# Altium schematic symbol library Regulator_Switching.SchLib: 1279 symbols (part 9 of 14)
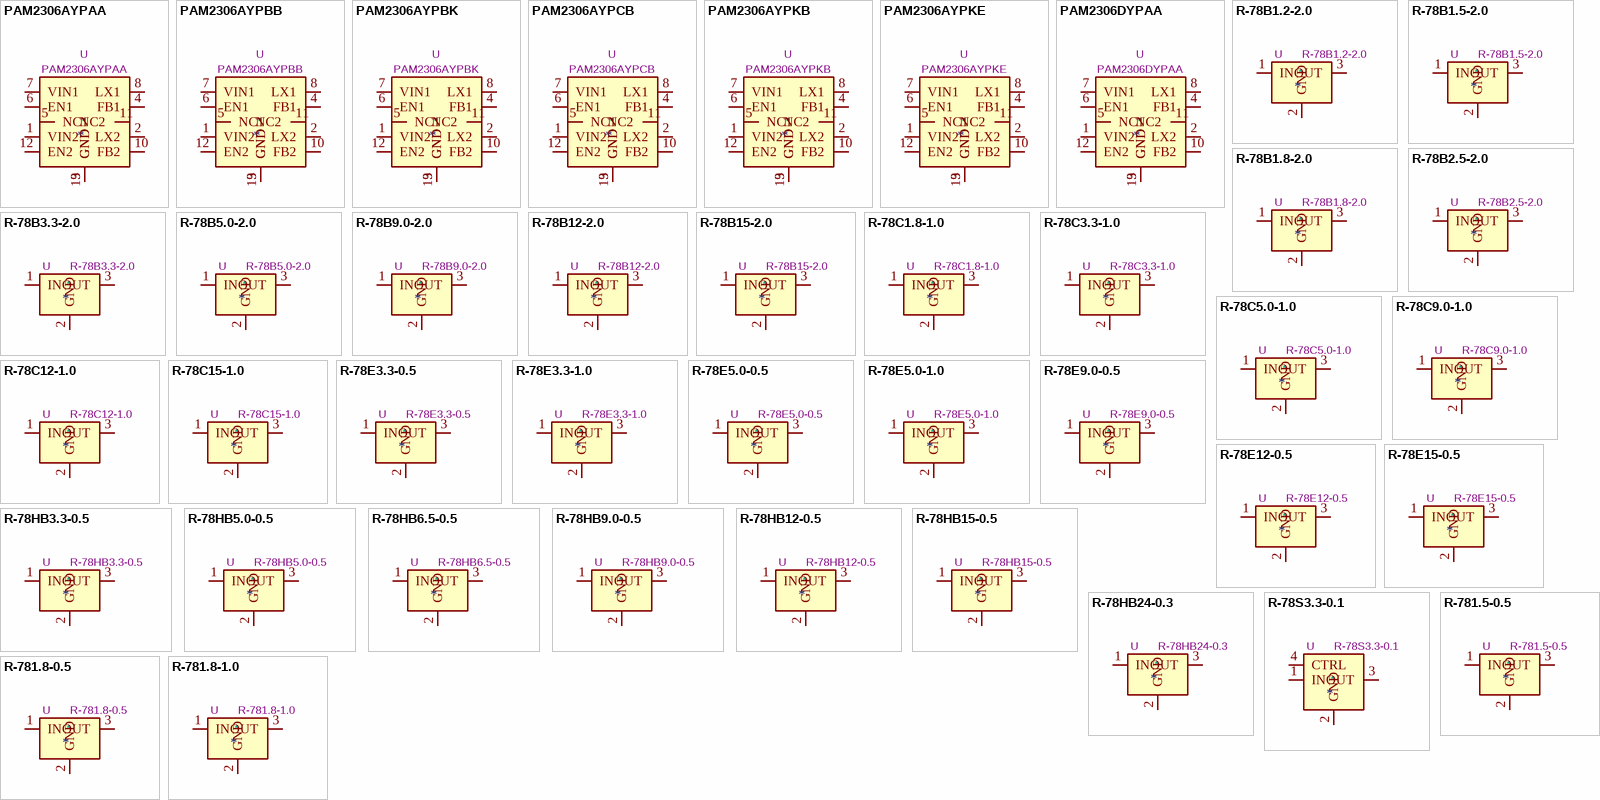
[diagram p40: symbols PAM2306AYPAA to R-781.8-1.0]

## R-78B1.5-2.0
designator *  value R-78B1.5-2.0  Reference: U
2A Step-Down DC/DC-Regulator, 4.75-32V input, 1.5V fixed Output Voltage, LM78xx replacement, -40°C to +85°C, SIP3; ki_keywords: dc-dc recom Step-Down DC/DC-Regulator; ki_fp_filters: Converter*DCDC*RECOM*R*78B*2.0*; Footprint: Converter_DCDC:Converter_DCDC_RECOM_R-78B-2.0_THT; Datasheet: https://www.recom-power.com/pdf/Innoline/R-78Bxx-2.0.pdf; Description_: 2A Step-Down DC/DC-Regulator, 4.75-32V input, 1.5V fixed Output Voltage, LM78xx replacement, -40°C to +85°C, SIP3
pins: 1 IN, 2 GND, 3 OUT

## R-78B1.8-2.0
designator *  value R-78B1.8-2.0  Reference: U
2A Step-Down DC/DC-Regulator, 4.75-32V input, 1.8V fixed Output Voltage, LM78xx replacement, -40°C to +85°C, SIP3; ki_keywords: dc-dc recom Step-Down DC/DC-Regulator; ki_fp_filters: Converter*DCDC*RECOM*R*78B*2.0*; Footprint: Converter_DCDC:Converter_DCDC_RECOM_R-78B-2.0_THT; Datasheet: https://www.recom-power.com/pdf/Innoline/R-78Bxx-2.0.pdf; Description_: 2A Step-Down DC/DC-Regulator, 4.75-32V input, 1.8V fixed Output Voltage, LM78xx replacement, -40°C to +85°C, SIP3
pins: 1 IN, 2 GND, 3 OUT

## R-78B2.5-2.0
designator *  value R-78B2.5-2.0  Reference: U
2A Step-Down DC/DC-Regulator, 4.75-32V input, 2.5V fixed Output Voltage, LM78xx replacement, -40°C to +85°C, SIP3; ki_keywords: dc-dc recom Step-Down DC/DC-Regulator; ki_fp_filters: Converter*DCDC*RECOM*R*78B*2.0*; Footprint: Converter_DCDC:Converter_DCDC_RECOM_R-78B-2.0_THT; Datasheet: https://www.recom-power.com/pdf/Innoline/R-78Bxx-2.0.pdf; Description_: 2A Step-Down DC/DC-Regulator, 4.75-32V input, 2.5V fixed Output Voltage, LM78xx replacement, -40°C to +85°C, SIP3
pins: 1 IN, 2 GND, 3 OUT

## R-78B3.3-2.0
designator *  value R-78B3.3-2.0  Reference: U
2A Step-Down DC/DC-Regulator, 4.75-32V input, 3.3V fixed Output Voltage, LM78xx replacement, -40°C to +85°C, SIP3; ki_keywords: dc-dc recom Step-Down DC/DC-Regulator; ki_fp_filters: Converter*DCDC*RECOM*R*78B*2.0*; Footprint: Converter_DCDC:Converter_DCDC_RECOM_R-78B-2.0_THT; Datasheet: https://www.recom-power.com/pdf/Innoline/R-78Bxx-2.0.pdf; Description_: 2A Step-Down DC/DC-Regulator, 4.75-32V input, 3.3V fixed Output Voltage, LM78xx replacement, -40°C to +85°C, SIP3
pins: 1 IN, 2 GND, 3 OUT

## R-78B5.0-2.0
designator *  value R-78B5.0-2.0  Reference: U
2A Step-Down DC/DC-Regulator, 6.5-32V input, 5.0V fixed Output Voltage, LM78xx replacement, -40°C to +85°C, SIP3; ki_keywords: dc-dc recom Step-Down DC/DC-Regulator; ki_fp_filters: Converter*DCDC*RECOM*R*78B*2.0*; Footprint: Converter_DCDC:Converter_DCDC_RECOM_R-78B-2.0_THT; Datasheet: https://www.recom-power.com/pdf/Innoline/R-78Bxx-2.0.pdf; Description_: 2A Step-Down DC/DC-Regulator, 6.5-32V input, 5.0V fixed Output Voltage, LM78xx replacement, -40°C to +85°C, SIP3
pins: 1 IN, 2 GND, 3 OUT

## R-78B9.0-2.0
designator *  value R-78B9.0-2.0  Reference: U
2A Step-Down DC/DC-Regulator, 11-32V input, 9.0V fixed Output Voltage, LM78xx replacement, -40°C to +85°C, SIP3; ki_keywords: dc-dc recom Step-Down DC/DC-Regulator; ki_fp_filters: Converter*DCDC*RECOM*R*78B*2.0*; Footprint: Converter_DCDC:Converter_DCDC_RECOM_R-78B-2.0_THT; Datasheet: https://www.recom-power.com/pdf/Innoline/R-78Bxx-2.0.pdf; Description_: 2A Step-Down DC/DC-Regulator, 11-32V input, 9.0V fixed Output Voltage, LM78xx replacement, -40°C to +85°C, SIP3
pins: 1 IN, 2 GND, 3 OUT

## R-78B12-2.0
designator *  value R-78B12-2.0  Reference: U
2A Step-Down DC/DC-Regulator, 15-32V input, 12V fixed Output Voltage, LM78xx replacement, -40°C to +85°C, SIP3; ki_keywords: dc-dc recom Step-Down DC/DC-Regulator; ki_fp_filters: Converter*DCDC*RECOM*R*78B*2.0*; Footprint: Converter_DCDC:Converter_DCDC_RECOM_R-78B-2.0_THT; Datasheet: https://www.recom-power.com/pdf/Innoline/R-78Bxx-2.0.pdf; Description_: 2A Step-Down DC/DC-Regulator, 15-32V input, 12V fixed Output Voltage, LM78xx replacement, -40°C to +85°C, SIP3
pins: 1 IN, 2 GND, 3 OUT

## R-78B15-2.0
designator *  value R-78B15-2.0  Reference: U
2A Step-Down DC/DC-Regulator, 18-32V input, 15V fixed Output Voltage, LM78xx replacement, -40°C to +85°C, SIP3; ki_keywords: dc-dc recom Step-Down DC/DC-Regulator; ki_fp_filters: Converter*DCDC*RECOM*R*78B*2.0*; Footprint: Converter_DCDC:Converter_DCDC_RECOM_R-78B-2.0_THT; Datasheet: https://www.recom-power.com/pdf/Innoline/R-78Bxx-2.0.pdf; Description_: 2A Step-Down DC/DC-Regulator, 18-32V input, 15V fixed Output Voltage, LM78xx replacement, -40°C to +85°C, SIP3
pins: 1 IN, 2 GND, 3 OUT

## R-78C1.8-1.0
designator *  value R-78C1.8-1.0  Reference: U
1A Step-Down DC/DC-Regulator, 5-42V input, 1.8V fixed Output Voltage, LM78xx replacement, -40°C to +85°C, SIP3; ki_keywords: dc-dc recom Step-Down DC/DC-Regulator; ki_fp_filters: Converter*DCDC*RECOM*R*78E*0.5*; Footprint: Converter_DCDC:Converter_DCDC_RECOM_R-78E-0.5_THT; Datasheet: https://www.recom-power.com/pdf/Innoline/R-78Cxx-1.0.pdf; Description_: 1A Step-Down DC/DC-Regulator, 5-42V input, 1.8V fixed Output Voltage, LM78xx replacement, -40°C to +85°C, SIP3
pins: 1 IN, 2 GND, 3 OUT

## R-78C3.3-1.0
designator *  value R-78C3.3-1.0  Reference: U
1A Step-Down DC/DC-Regulator, 6-42V input, 3.3V fixed Output Voltage, LM78xx replacement, -40°C to +85°C, SIP3; ki_keywords: dc-dc recom Step-Down DC/DC-Regulator; ki_fp_filters: Converter*DCDC*RECOM*R*78E*0.5*; Footprint: Converter_DCDC:Converter_DCDC_RECOM_R-78E-0.5_THT; Datasheet: https://www.recom-power.com/pdf/Innoline/R-78Cxx-1.0.pdf; Description_: 1A Step-Down DC/DC-Regulator, 6-42V input, 3.3V fixed Output Voltage, LM78xx replacement, -40°C to +85°C, SIP3
pins: 1 IN, 2 GND, 3 OUT

## R-78C5.0-1.0
designator *  value R-78C5.0-1.0  Reference: U
1A Step-Down DC/DC-Regulator, 7-42V input, 5V fixed Output Voltage, LM78xx replacement, -40°C to +85°C, SIP3; ki_keywords: dc-dc recom Step-Down DC/DC-Regulator; ki_fp_filters: Converter*DCDC*RECOM*R*78E*0.5*; Footprint: Converter_DCDC:Converter_DCDC_RECOM_R-78E-0.5_THT; Datasheet: https://www.recom-power.com/pdf/Innoline/R-78Cxx-1.0.pdf; Description_: 1A Step-Down DC/DC-Regulator, 7-42V input, 5V fixed Output Voltage, LM78xx replacement, -40°C to +85°C, SIP3
pins: 1 IN, 2 GND, 3 OUT

## R-78C9.0-1.0
designator *  value R-78C9.0-1.0  Reference: U
1A Step-Down DC/DC-Regulator, 12-42V input, 9V fixed Output Voltage, LM78xx replacement, -40°C to +85°C, SIP3; ki_keywords: dc-dc recom Step-Down DC/DC-Regulator; ki_fp_filters: Converter*DCDC*RECOM*R*78E*0.5*; Footprint: Converter_DCDC:Converter_DCDC_RECOM_R-78E-0.5_THT; Datasheet: https://www.recom-power.com/pdf/Innoline/R-78Cxx-1.0.pdf; Description_: 1A Step-Down DC/DC-Regulator, 12-42V input, 9V fixed Output Voltage, LM78xx replacement, -40°C to +85°C, SIP3
pins: 1 IN, 2 GND, 3 OUT

## R-78C12-1.0
designator *  value R-78C12-1.0  Reference: U
1A Step-Down DC/DC-Regulator, 15-42V input, 12V fixed Output Voltage, LM78xx replacement, -40°C to +85°C, SIP3; ki_keywords: dc-dc recom Step-Down DC/DC-Regulator; ki_fp_filters: Converter*DCDC*RECOM*R*78E*0.5*; Footprint: Converter_DCDC:Converter_DCDC_RECOM_R-78E-0.5_THT; Datasheet: https://www.recom-power.com/pdf/Innoline/R-78Cxx-1.0.pdf; Description_: 1A Step-Down DC/DC-Regulator, 15-42V input, 12V fixed Output Voltage, LM78xx replacement, -40°C to +85°C, SIP3
pins: 1 IN, 2 GND, 3 OUT

## R-78C15-1.0
designator *  value R-78C15-1.0  Reference: U
1A Step-Down DC/DC-Regulator, 18-42V input, 15V fixed Output Voltage, LM78xx replacement, -40°C to +85°C, SIP3; ki_keywords: dc-dc recom Step-Down DC/DC-Regulator; ki_fp_filters: Converter*DCDC*RECOM*R*78E*0.5*; Footprint: Converter_DCDC:Converter_DCDC_RECOM_R-78E-0.5_THT; Datasheet: https://www.recom-power.com/pdf/Innoline/R-78Cxx-1.0.pdf; Description_: 1A Step-Down DC/DC-Regulator, 18-42V input, 15V fixed Output Voltage, LM78xx replacement, -40°C to +85°C, SIP3
pins: 1 IN, 2 GND, 3 OUT

## R-78E3.3-0.5
designator *  value R-78E3.3-0.5  Reference: U
500mA Step-Down DC/DC-Regulator, 6-28V input, 3.3V fixed Output Voltage, LM78xx replacement, -40°C to +85°C, SIP3; ki_keywords: dc-dc recom Step-Down DC/DC-Regulator; ki_fp_filters: Converter*DCDC*RECOM*R*78E*0.5*; Footprint: Converter_DCDC:Converter_DCDC_RECOM_R-78E-0.5_THT; Datasheet: https://www.recom-power.com/pdf/Innoline/R-78Exx-0.5.pdf; Description_: 500mA Step-Down DC/DC-Regulator, 6-28V input, 3.3V fixed Output Voltage, LM78xx replacement, -40°C to +85°C, SIP3
pins: 1 IN, 2 GND, 3 OUT

## R-78E3.3-1.0
designator *  value R-78E3.3-1.0  Reference: U
1A Step-Down DC/DC-Regulator, 6-28V input, 3.3V fixed Output Voltage, LM78xx replacement, -40°C to +85°C, SIP3; ki_keywords: dc-dc recom Step-Down DC/DC-Regulator; ki_fp_filters: Converter*DCDC*RECOM*R*78E*0.5*; Footprint: Converter_DCDC:Converter_DCDC_RECOM_R-78E-0.5_THT; Datasheet: https://www.recom-power.com/pdf/Innoline/R-78Exx-1.0.pdf; Description_: 1A Step-Down DC/DC-Regulator, 6-28V input, 3.3V fixed Output Voltage, LM78xx replacement, -40°C to +85°C, SIP3
pins: 1 IN, 2 GND, 3 OUT

## R-78E5.0-0.5
designator *  value R-78E5.0-0.5  Reference: U
500mA Step-Down DC/DC-Regulator, 7-28V input, 5V fixed Output Voltage, LM78xx replacement, -40°C to +85°C, SIP3; ki_keywords: dc-dc recom Step-Down DC/DC-Regulator; ki_fp_filters: Converter*DCDC*RECOM*R*78E*0.5*; Footprint: Converter_DCDC:Converter_DCDC_RECOM_R-78E-0.5_THT; Datasheet: https://www.recom-power.com/pdf/Innoline/R-78Exx-0.5.pdf; Description_: 500mA Step-Down DC/DC-Regulator, 7-28V input, 5V fixed Output Voltage, LM78xx replacement, -40°C to +85°C, SIP3
pins: 1 IN, 2 GND, 3 OUT

## R-78E5.0-1.0
designator *  value R-78E5.0-1.0  Reference: U
1A Step-Down DC/DC-Regulator, 7-28V input, 5V fixed Output Voltage, LM78xx replacement, -40°C to +85°C, SIP3; ki_keywords: dc-dc recom Step-Down DC/DC-Regulator; ki_fp_filters: Converter*DCDC*RECOM*R*78E*0.5*; Footprint: Converter_DCDC:Converter_DCDC_RECOM_R-78E-0.5_THT; Datasheet: https://www.recom-power.com/pdf/Innoline/R-78Exx-1.0.pdf; Description_: 1A Step-Down DC/DC-Regulator, 7-28V input, 5V fixed Output Voltage, LM78xx replacement, -40°C to +85°C, SIP3
pins: 1 IN, 2 GND, 3 OUT

## R-78E9.0-0.5
designator *  value R-78E9.0-0.5  Reference: U
500mA Step-Down DC/DC-Regulator, 12-28V input, 9V fixed Output Voltage, LM78xx replacement, -40°C to +85°C, SIP3; ki_keywords: dc-dc recom Step-Down DC/DC-Regulator; ki_fp_filters: Converter*DCDC*RECOM*R*78E*0.5*; Footprint: Converter_DCDC:Converter_DCDC_RECOM_R-78E-0.5_THT; Datasheet: https://www.recom-power.com/pdf/Innoline/R-78Exx-0.5.pdf; Description_: 500mA Step-Down DC/DC-Regulator, 12-28V input, 9V fixed Output Voltage, LM78xx replacement, -40°C to +85°C, SIP3
pins: 1 IN, 2 GND, 3 OUT

## R-78E12-0.5
designator *  value R-78E12-0.5  Reference: U
500mA Step-Down DC/DC-Regulator, 15-28V input, 12V fixed Output Voltage, LM78xx replacement, -40°C to +85°C, SIP3; ki_keywords: dc-dc recom Step-Down DC/DC-Regulator; ki_fp_filters: Converter*DCDC*RECOM*R*78E*0.5*; Footprint: Converter_DCDC:Converter_DCDC_RECOM_R-78E-0.5_THT; Datasheet: https://www.recom-power.com/pdf/Innoline/R-78Exx-0.5.pdf; Description_: 500mA Step-Down DC/DC-Regulator, 15-28V input, 12V fixed Output Voltage, LM78xx replacement, -40°C to +85°C, SIP3
pins: 1 IN, 2 GND, 3 OUT

## R-78E15-0.5
designator *  value R-78E15-0.5  Reference: U
500mA Step-Down DC/DC-Regulator, 18-28V input, 15V fixed Output Voltage, LM78xx replacement, -40°C to +85°C, SIP3; ki_keywords: dc-dc recom Step-Down DC/DC-Regulator; ki_fp_filters: Converter*DCDC*RECOM*R*78E*0.5*; Footprint: Converter_DCDC:Converter_DCDC_RECOM_R-78E-0.5_THT; Datasheet: https://www.recom-power.com/pdf/Innoline/R-78Exx-0.5.pdf; Description_: 500mA Step-Down DC/DC-Regulator, 18-28V input, 15V fixed Output Voltage, LM78xx replacement, -40°C to +85°C, SIP3
pins: 1 IN, 2 GND, 3 OUT

## R-78HB3.3-0.5
designator *  value R-78HB3.3-0.5  Reference: U
500mA Step-Down DC/DC-Regulator, 9-72V input, 3.3V fixed Output Voltage, LM78xx replacement, -40°C to +85°C, SIP3; ki_keywords: dc-dc recom Step-Down DC/DC-Regulator; ki_fp_filters: Converter*DCDC*RECOM*R*78HB*0.5*; Footprint: Converter_DCDC:Converter_DCDC_RECOM_R-78HB-0.5_THT; Datasheet: https://www.recom-power.com/pdf/Innoline/R-78HBxx-0.5_L.pdf; Description_: 500mA Step-Down DC/DC-Regulator, 9-72V input, 3.3V fixed Output Voltage, LM78xx replacement, -40°C to +85°C, SIP3
pins: 1 IN, 2 GND, 3 OUT

## R-78HB5.0-0.5
designator *  value R-78HB5.0-0.5  Reference: U
500mA Step-Down DC/DC-Regulator, 9-72V input, 5.0V fixed Output Voltage, LM78xx replacement, -40°C to +85°C, SIP3; ki_keywords: dc-dc recom Step-Down DC/DC-Regulator; ki_fp_filters: Converter*DCDC*RECOM*R*78HB*0.5*; Footprint: Converter_DCDC:Converter_DCDC_RECOM_R-78HB-0.5_THT; Datasheet: https://www.recom-power.com/pdf/Innoline/R-78HBxx-0.5_L.pdf; Description_: 500mA Step-Down DC/DC-Regulator, 9-72V input, 5.0V fixed Output Voltage, LM78xx replacement, -40°C to +85°C, SIP3
pins: 1 IN, 2 GND, 3 OUT

## R-78HB6.5-0.5
designator *  value R-78HB6.5-0.5  Reference: U
500mA Step-Down DC/DC-Regulator, 9-72V input, 6.5V fixed Output Voltage, LM78xx replacement, -40°C to +85°C, SIP3; ki_keywords: dc-dc recom Step-Down DC/DC-Regulator; ki_fp_filters: Converter*DCDC*RECOM*R*78HB*0.5*; Footprint: Converter_DCDC:Converter_DCDC_RECOM_R-78HB-0.5_THT; Datasheet: https://www.recom-power.com/pdf/Innoline/R-78HBxx-0.5_L.pdf; Description_: 500mA Step-Down DC/DC-Regulator, 9-72V input, 6.5V fixed Output Voltage, LM78xx replacement, -40°C to +85°C, SIP3
pins: 1 IN, 2 GND, 3 OUT

## R-78HB9.0-0.5
designator *  value R-78HB9.0-0.5  Reference: U
500mA Step-Down DC/DC-Regulator, 14-72V input, 9.0V fixed Output Voltage, LM78xx replacement, -40°C to +85°C, SIP3; ki_keywords: dc-dc recom Step-Down DC/DC-Regulator; ki_fp_filters: Converter*DCDC*RECOM*R*78HB*0.5*; Footprint: Converter_DCDC:Converter_DCDC_RECOM_R-78HB-0.5_THT; Datasheet: https://www.recom-power.com/pdf/Innoline/R-78HBxx-0.5_L.pdf; Description_: 500mA Step-Down DC/DC-Regulator, 14-72V input, 9.0V fixed Output Voltage, LM78xx replacement, -40°C to +85°C, SIP3
pins: 1 IN, 2 GND, 3 OUT

## R-78HB12-0.5
designator *  value R-78HB12-0.5  Reference: U
500mA Step-Down DC/DC-Regulator, 17-72V input, 12V fixed Output Voltage, LM78xx replacement, -40°C to +85°C, SIP3; ki_keywords: dc-dc recom Step-Down DC/DC-Regulator; ki_fp_filters: Converter*DCDC*RECOM*R*78HB*0.5*; Footprint: Converter_DCDC:Converter_DCDC_RECOM_R-78HB-0.5_THT; Datasheet: https://www.recom-power.com/pdf/Innoline/R-78HBxx-0.5_L.pdf; Description_: 500mA Step-Down DC/DC-Regulator, 17-72V input, 12V fixed Output Voltage, LM78xx replacement, -40°C to +85°C, SIP3
pins: 1 IN, 2 GND, 3 OUT

## R-78HB15-0.5
designator *  value R-78HB15-0.5  Reference: U
500mA Step-Down DC/DC-Regulator, 20-72V input, 15V fixed Output Voltage, LM78xx replacement, -40°C to +85°C, SIP3; ki_keywords: dc-dc recom Step-Down DC/DC-Regulator; ki_fp_filters: Converter*DCDC*RECOM*R*78HB*0.5*; Footprint: Converter_DCDC:Converter_DCDC_RECOM_R-78HB-0.5_THT; Datasheet: https://www.recom-power.com/pdf/Innoline/R-78HBxx-0.5_L.pdf; Description_: 500mA Step-Down DC/DC-Regulator, 20-72V input, 15V fixed Output Voltage, LM78xx replacement, -40°C to +85°C, SIP3
pins: 1 IN, 2 GND, 3 OUT

## R-78HB24-0.3
designator *  value R-78HB24-0.3  Reference: U
300mA Step-Down DC/DC-Regulator, 36-72V input, 24V fixed Output Voltage, LM78xx replacement, -40°C to +85°C, SIP3; ki_keywords: dc-dc recom Step-Down DC/DC-Regulator; ki_fp_filters: Converter*DCDC*RECOM*R*78HB*0.5*; Footprint: Converter_DCDC:Converter_DCDC_RECOM_R-78HB-0.5_THT; Datasheet: https://www.recom-power.com/pdf/Innoline/R-78HBxx-0.5_L.pdf; Description_: 300mA Step-Down DC/DC-Regulator, 36-72V input, 24V fixed Output Voltage, LM78xx replacement, -40°C to +85°C, SIP3
pins: 1 IN, 2 GND, 3 OUT

## R-78S3.3-0.1
designator *  value R-78S3.3-0.1  Reference: U
100mA Step-Up DC/DC-Regulator, 0.65-3.15V input, 3.3V fixed Output Voltage, LM78xx replacement, -40°C to +85°C, SIP4; ki_keywords: dc-dc recom Step-Down DC/DC-Regulator; ki_fp_filters: Converter*DCDC*RECOM*R*78S*0.1*; Footprint: Converter_DCDC:Converter_DCDC_RECOM_R-78S-0.1_THT; Datasheet: https://www.recom-power.com/pdf/Innoline/R-78Sxx-0.1.pdf; Description_: 100mA Step-Up DC/DC-Regulator, 0.65-3.15V input, 3.3V fixed Output Voltage, LM78xx replacement, -40°C to +85°C, SIP4
pins: 1 IN, 2 GND, 3 OUT, 4 CTRL

## R-781.5-0.5
designator *  value R-781.5-0.5  Reference: U
500mA Step-Down DC/DC-Regulator, 4.75-30V input, 1.5V fixed Output Voltage, LM78xx replacement, -40°C to +85°C, SIP3; ki_keywords: dc-dc recom Step-Down DC/DC-Regulator; ki_fp_filters: Converter*DCDC*RECOM*R*78E*0.5*; Footprint: Converter_DCDC:Converter_DCDC_RECOM_R-78E-0.5_THT; Datasheet: https://www.recom-power.com/pdf/Innoline/R-78xx-0.5.pdf; Description_: 500mA Step-Down DC/DC-Regulator, 4.75-30V input, 1.5V fixed Output Voltage, LM78xx replacement, -40°C to +85°C, SIP3
pins: 1 IN, 2 GND, 3 OUT

## R-781.8-0.5
designator *  value R-781.8-0.5  Reference: U
500mA Step-Down DC/DC-Regulator, 4.75-32V input, 1.8V fixed Output Voltage, LM78xx replacement, -40°C to +85°C, SIP3; ki_keywords: dc-dc recom Step-Down DC/DC-Regulator; ki_fp_filters: Converter*DCDC*RECOM*R*78E*0.5*; Footprint: Converter_DCDC:Converter_DCDC_RECOM_R-78E-0.5_THT; Datasheet: https://www.recom-power.com/pdf/Innoline/R-78xx-0.5.pdf; Description_: 500mA Step-Down DC/DC-Regulator, 4.75-32V input, 1.8V fixed Output Voltage, LM78xx replacement, -40°C to +85°C, SIP3
pins: 1 IN, 2 GND, 3 OUT

## R-781.8-1.0
designator *  value R-781.8-1.0  Reference: U
1A Step-Down DC/DC-Regulator, 4.75-18V input, 1.8V fixed Output Voltage, LM78xx replacement, -40°C to +85°C, SIP3; ki_keywords: dc-dc recom Step-Down DC/DC-Regulator; ki_fp_filters: Converter*DCDC*RECOM*R*78E*0.5*; Footprint: Converter_DCDC:Converter_DCDC_RECOM_R-78E-0.5_THT; Datasheet: https://www.recom-power.com/pdf/Innoline/R-78xx-1.0.pdf; Description_: 1A Step-Down DC/DC-Regulator, 4.75-18V input, 1.8V fixed Output Voltage, LM78xx replacement, -40°C to +85°C, SIP3
pins: 1 IN, 2 GND, 3 OUT

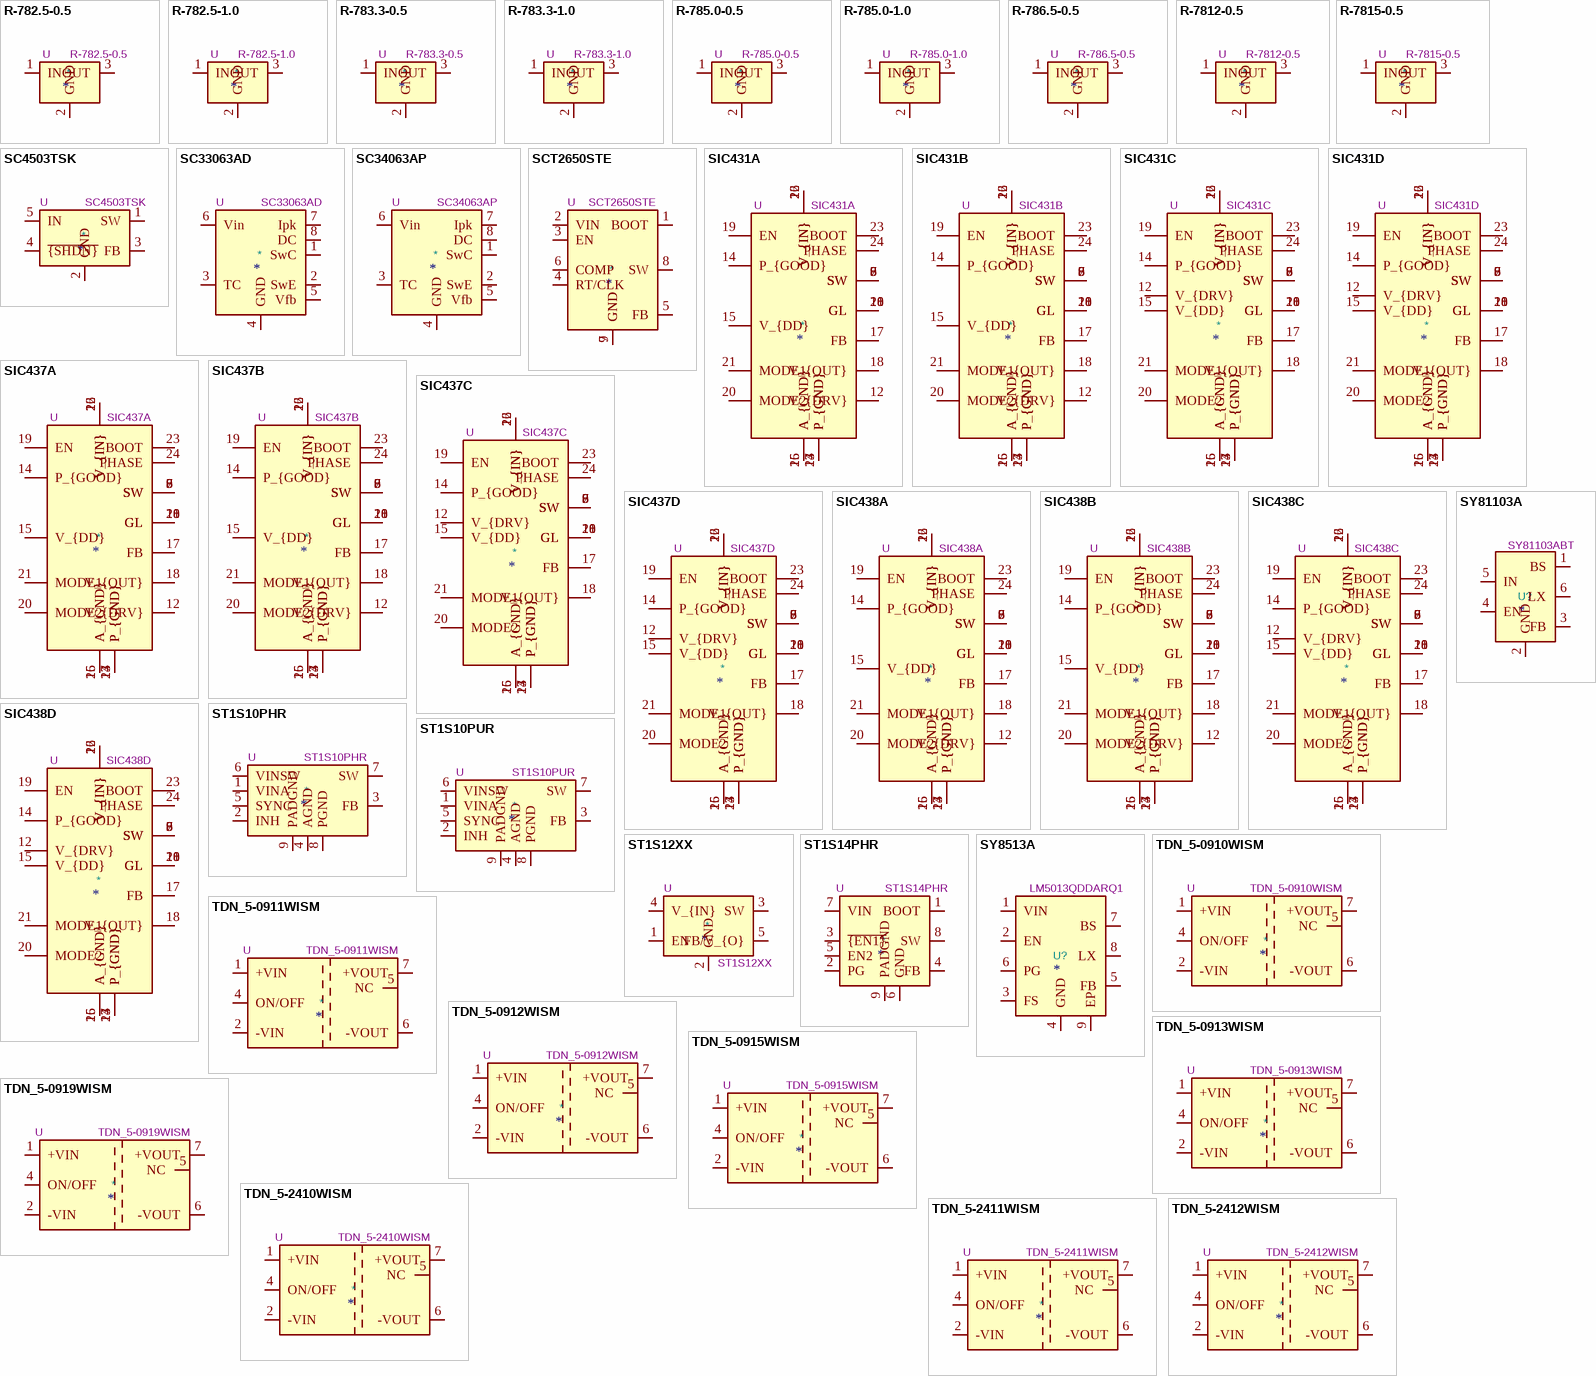
[diagram p20: symbols R-782.5-0.5 to TDN_5-2412WISM]

## R-782.5-0.5
designator *  value R-782.5-0.5  Reference: U
500mA Step-Down DC/DC-Regulator, 4.75-18V input, 2.5V fixed Output Voltage, LM78xx replacement, -40°C to +85°C, SIP3; ki_keywords: dc-dc recom Step-Down DC/DC-Regulator; ki_fp_filters: Converter*DCDC*RECOM*R*78E*0.5*; Footprint: Converter_DCDC:Converter_DCDC_RECOM_R-78E-0.5_THT; Datasheet: https://www.recom-power.com/pdf/Innoline/R-78xx-0.5.pdf; Description_: 500mA Step-Down DC/DC-Regulator, 4.75-18V input, 2.5V fixed Output Voltage, LM78xx replacement, -40°C to +85°C, SIP3
pins: 1 IN, 2 GND, 3 OUT

## R-782.5-1.0
designator *  value R-782.5-1.0  Reference: U
1A Step-Down DC/DC-Regulator, 4.75-18V input, 2.5V fixed Output Voltage, LM78xx replacement, -40°C to +85°C, SIP3; ki_keywords: dc-dc recom Step-Down DC/DC-Regulator; ki_fp_filters: Converter*DCDC*RECOM*R*78E*0.5*; Footprint: Converter_DCDC:Converter_DCDC_RECOM_R-78E-0.5_THT; Datasheet: https://www.recom-power.com/pdf/Innoline/R-78xx-1.0.pdf; Description_: 1A Step-Down DC/DC-Regulator, 4.75-18V input, 2.5V fixed Output Voltage, LM78xx replacement, -40°C to +85°C, SIP3
pins: 1 IN, 2 GND, 3 OUT

## R-783.3-0.5
designator *  value R-783.3-0.5  Reference: U
500mA Step-Down DC/DC-Regulator, 4.75-18V input, 3.3V fixed Output Voltage, LM78xx replacement, -40°C to +85°C, SIP3; ki_keywords: dc-dc recom Step-Down DC/DC-Regulator; ki_fp_filters: Converter*DCDC*RECOM*R*78E*0.5*; Footprint: Converter_DCDC:Converter_DCDC_RECOM_R-78E-0.5_THT; Datasheet: https://www.recom-power.com/pdf/Innoline/R-78xx-0.5.pdf; Description_: 500mA Step-Down DC/DC-Regulator, 4.75-18V input, 3.3V fixed Output Voltage, LM78xx replacement, -40°C to +85°C, SIP3
pins: 1 IN, 2 GND, 3 OUT

## R-783.3-1.0
designator *  value R-783.3-1.0  Reference: U
1A Step-Down DC/DC-Regulator, 4.75-18V input, 3.3V fixed Output Voltage, LM78xx replacement, -40°C to +85°C, SIP3; ki_keywords: dc-dc recom Step-Down DC/DC-Regulator; ki_fp_filters: Converter*DCDC*RECOM*R*78E*0.5*; Footprint: Converter_DCDC:Converter_DCDC_RECOM_R-78E-0.5_THT; Datasheet: https://www.recom-power.com/pdf/Innoline/R-78xx-1.0.pdf; Description_: 1A Step-Down DC/DC-Regulator, 4.75-18V input, 3.3V fixed Output Voltage, LM78xx replacement, -40°C to +85°C, SIP3
pins: 1 IN, 2 GND, 3 OUT

## R-785.0-0.5
designator *  value R-785.0-0.5  Reference: U
500mA Step-Down DC/DC-Regulator, 6.5-18V input, 5V fixed Output Voltage, LM78xx replacement, -40°C to +85°C, SIP3; ki_keywords: dc-dc recom Step-Down DC/DC-Regulator; ki_fp_filters: Converter*DCDC*RECOM*R*78E*0.5*; Footprint: Converter_DCDC:Converter_DCDC_RECOM_R-78E-0.5_THT; Datasheet: https://www.recom-power.com/pdf/Innoline/R-78xx-0.5.pdf; Description_: 500mA Step-Down DC/DC-Regulator, 6.5-18V input, 5V fixed Output Voltage, LM78xx replacement, -40°C to +85°C, SIP3
pins: 1 IN, 2 GND, 3 OUT

## R-785.0-1.0
designator *  value R-785.0-1.0  Reference: U
1A Step-Down DC/DC-Regulator, 6.5-18V input, 5V fixed Output Voltage, LM78xx replacement, -40°C to +85°C, SIP3; ki_keywords: dc-dc recom Step-Down DC/DC-Regulator; ki_fp_filters: Converter*DCDC*RECOM*R*78E*0.5*; Footprint: Converter_DCDC:Converter_DCDC_RECOM_R-78E-0.5_THT; Datasheet: https://www.recom-power.com/pdf/Innoline/R-78xx-1.0.pdf; Description_: 1A Step-Down DC/DC-Regulator, 6.5-18V input, 5V fixed Output Voltage, LM78xx replacement, -40°C to +85°C, SIP3
pins: 1 IN, 2 GND, 3 OUT

## R-786.5-0.5
designator *  value R-786.5-0.5  Reference: U
500mA Step-Down DC/DC-Regulator, 8-32V input, 6.5V fixed Output Voltage, LM78xx replacement, -40°C to +85°C, SIP3; ki_keywords: dc-dc recom Step-Down DC/DC-Regulator; ki_fp_filters: Converter*DCDC*RECOM*R*78E*0.5*; Footprint: Converter_DCDC:Converter_DCDC_RECOM_R-78E-0.5_THT; Datasheet: https://www.recom-power.com/pdf/Innoline/R-78xx-0.5.pdf; Description_: 500mA Step-Down DC/DC-Regulator, 8-32V input, 6.5V fixed Output Voltage, LM78xx replacement, -40°C to +85°C, SIP3
pins: 1 IN, 2 GND, 3 OUT

## R-7812-0.5
designator *  value R-7812-0.5  Reference: U
500mA Step-Down DC/DC-Regulator, 15-32V input, 12V fixed Output Voltage, LM78xx replacement, -40°C to +85°C, SIP3; ki_keywords: dc-dc recom Step-Down DC/DC-Regulator; ki_fp_filters: Converter*DCDC*RECOM*R*78E*0.5*; Footprint: Converter_DCDC:Converter_DCDC_RECOM_R-78E-0.5_THT; Datasheet: https://www.recom-power.com/pdf/Innoline/R-78xx-0.5.pdf; Description_: 500mA Step-Down DC/DC-Regulator, 15-32V input, 12V fixed Output Voltage, LM78xx replacement, -40°C to +85°C, SIP3
pins: 1 IN, 2 GND, 3 OUT

## R-7815-0.5
designator *  value R-7815-0.5  Reference: U
500mA Step-Down DC/DC-Regulator, 18-32V input, 15V fixed Output Voltage, LM78xx replacement, -40°C to +85°C, SIP3; ki_keywords: dc-dc recom Step-Down DC/DC-Regulator; ki_fp_filters: Converter*DCDC*RECOM*R*78E*0.5*; Footprint: Converter_DCDC:Converter_DCDC_RECOM_R-78E-0.5_THT; Datasheet: https://www.recom-power.com/pdf/Innoline/R-78xx-0.5.pdf; Description_: 500mA Step-Down DC/DC-Regulator, 18-32V input, 15V fixed Output Voltage, LM78xx replacement, -40°C to +85°C, SIP3
pins: 1 IN, 2 GND, 3 OUT

## SC4503TSK
designator *  value SC4503TSK  Reference: U
1.9A, 1.3MHz Step-Up DC/DC Converter, 2.5V-20V output voltage, TSOT23; ki_keywords: 1.9A 1.3MHz Step-Up DC/DC; ki_fp_filters: TSOT*23*; Footprint: Package_TO_SOT_SMD:TSOT-23-5; Datasheet: https://www.semtech.com/uploads/documents/sc4503.pdf; Description_: 1.9A, 1.3MHz Step-Up DC/DC Converter, 2.5V-20V output voltage, TSOT23
pins: 1 SW, 2 GND, 3 FB, 4 ~{{SHDN}}, 5 IN

## SC33063AD
designator *  value SC33063AD  Reference: U
1.5A, step-up/down/inverting switching regulator, 3-40V Vin, 100kHz, SO-8; ki_keywords: smps buck boost inverting; ki_fp_filters: SOIC*3.9x4.9mm*P1.27mm*; Footprint: Package_SO:SOIC-8_3.9x4.9mm_P1.27mm; Datasheet: http://www.onsemi.com/pub_link/Collateral/MC34063A-D.PDF; Description_: 1.5A, step-up/down/inverting switching regulator, 3-40V Vin, 100kHz, SO-8
pins: 1 SwC, 2 SwE, 3 TC, 4 GND, 5 Vfb, 6 Vin, 7 Ipk, 8 DC

## SC34063AP
designator *  value SC34063AP  Reference: U
1.5A, step-up/down/inverting switching regulator, 3-40V Vin, 100kHz, DIP-8; ki_keywords: smps buck boost inverting; ki_fp_filters: DIP*W7.62mm*; Footprint: Package_DIP:DIP-8_W7.62mm; Datasheet: http://www.onsemi.com/pub_link/Collateral/MC34063A-D.PDF; Description_: 1.5A, step-up/down/inverting switching regulator, 3-40V Vin, 100kHz, DIP-8
pins: 1 SwC, 2 SwE, 3 TC, 4 GND, 5 Vfb, 6 Vin, 7 Ipk, 8 DC

## SCT2650STE
designator *  value SCT2650STE  Reference: U
5A Buck Regulator, 4.5-60V input, 100kHz..1.2MHz adjustable frequency, pulse skipping mode (PSM) at light load, SOIC-8 (SOP-8); ki_keywords: silicontent silicon-content switching step-down; ki_fp_filters: *SOIC*3.9x4.9mm*P1.27mm*EP2.*3.*; Footprint: Package_SO:SOIC-8-1EP_3.9x4.9mm_P1.27mm_EP2.41x3.3mm; Datasheet: https://www.silicontent.com//uploads/20241024/862bd33cde0b5cf82cc861cd1faade3b.pdf; Description_: 5A Buck Regulator, 4.5-60V input, 100kHz..1.2MHz adjustable frequency, pulse skipping mode (PSM) at light load, SOIC-8 (SOP-8)
pins: 1 BOOT, 2 VIN, 3 EN, 4 RT/CLK, 5 FB, 6 COMP, 7 GND, 8 SW, 9 GND

## SIC431A
designator *  value SIC431A  Reference: U
24A Step-Down DC/DC-Regulator, 300kHz-1MHz, 3..24Vin, 0.6..21.6Vout; ki_keywords: Buck Vishay Siliconix voltage-regulator; ki_fp_filters: Vishay?PowerPAK?MLP44?24L*; Footprint: Package_DFN_QFN:Vishay_PowerPAK_MLP44-24L_ThermalVias; Datasheet: https://www.vishay.com/docs/74589/sic431.pdf; Description_: 24A Step-Down DC/DC-Regulator, 300kHz-1MHz, 3..24Vin, 0.6..21.6Vout
pins: 1 V_{IN}, 2 V_{IN}, 3 P_{GND}, 4 P_{GND}, 5 SW, 6 SW, 7 SW, 8 SW, 9 SW, 10 GL, 11 GL, 12 V_{DRV}, 13 P_{GND}, 14 P_{GOOD}, 15 V_{DD}, 16 A_{GND}, 17 FB, 18 V_{OUT}, 19 EN, 20 MODE2, 21 MODE1, 22 V_{IN}, 23 BOOT, 24 PHASE, 25 A_{GND}, 26 V_{IN}, 27 P_{GND}, 28 GL

## SIC431B
designator *  value SIC431B  Reference: U
24A Step-Down DC/DC-Regulator, 300kHz-1MHz, 3..24Vin, 0.6..21.6Vout; ki_keywords: Buck Vishay Siliconix voltage-regulator; ki_fp_filters: Vishay?PowerPAK?MLP44?24L*; Footprint: Package_DFN_QFN:Vishay_PowerPAK_MLP44-24L_ThermalVias; Datasheet: https://www.vishay.com/docs/74589/sic431.pdf; Description_: 24A Step-Down DC/DC-Regulator, 300kHz-1MHz, 3..24Vin, 0.6..21.6Vout
pins: 1 V_{IN}, 2 V_{IN}, 3 P_{GND}, 4 P_{GND}, 5 SW, 6 SW, 7 SW, 8 SW, 9 SW, 10 GL, 11 GL, 12 V_{DRV}, 13 P_{GND}, 14 P_{GOOD}, 15 V_{DD}, 16 A_{GND}, 17 FB, 18 V_{OUT}, 19 EN, 20 MODE2, 21 MODE1, 22 V_{IN}, 23 BOOT, 24 PHASE, 25 A_{GND}, 26 V_{IN}, 27 P_{GND}, 28 GL

## SIC431C
designator *  value SIC431C  Reference: U
24A Step-Down DC/DC-Regulator, 300kHz-1MHz, 3..24Vin, 0.6..21.6Vout; ki_keywords: Buck Vishay Siliconix voltage-regulator; ki_fp_filters: Vishay?PowerPAK?MLP44?24L*; Footprint: Package_DFN_QFN:Vishay_PowerPAK_MLP44-24L_ThermalVias; Datasheet: https://www.vishay.com/docs/74589/sic431.pdf; Description_: 24A Step-Down DC/DC-Regulator, 300kHz-1MHz, 3..24Vin, 0.6..21.6Vout
pins: 1 V_{IN}, 2 V_{IN}, 3 P_{GND}, 4 P_{GND}, 5 SW, 6 SW, 7 SW, 8 SW, 9 SW, 10 GL, 11 GL, 12 V_{DRV}, 13 P_{GND}, 14 P_{GOOD}, 15 V_{DD}, 16 A_{GND}, 17 FB, 18 V_{OUT}, 19 EN, 20 MODE2, 21 MODE1, 22 V_{IN}, 23 BOOT, 24 PHASE, 25 A_{GND}, 26 V_{IN}, 27 P_{GND}, 28 GL

## SIC431D
designator *  value SIC431D  Reference: U
24A Step-Down DC/DC-Regulator, 300kHz-1MHz, 3..24Vin, 0.6..21.6Vout; ki_keywords: Buck Vishay Siliconix voltage-regulator; ki_fp_filters: Vishay?PowerPAK?MLP44?24L*; Footprint: Package_DFN_QFN:Vishay_PowerPAK_MLP44-24L_ThermalVias; Datasheet: https://www.vishay.com/docs/74589/sic431.pdf; Description_: 24A Step-Down DC/DC-Regulator, 300kHz-1MHz, 3..24Vin, 0.6..21.6Vout
pins: 1 V_{IN}, 2 V_{IN}, 3 P_{GND}, 4 P_{GND}, 5 SW, 6 SW, 7 SW, 8 SW, 9 SW, 10 GL, 11 GL, 12 V_{DRV}, 13 P_{GND}, 14 P_{GOOD}, 15 V_{DD}, 16 A_{GND}, 17 FB, 18 V_{OUT}, 19 EN, 20 MODE2, 21 MODE1, 22 V_{IN}, 23 BOOT, 24 PHASE, 25 A_{GND}, 26 V_{IN}, 27 P_{GND}, 28 GL

## SIC437A
designator *  value SIC437A  Reference: U
12A Step-Down DC/DC-Regulator, 300kHz-1MHz, 3..24Vin, 0.6..21.6Vout; ki_keywords: Buck Vishay Siliconix voltage-regulator; ki_fp_filters: Vishay?PowerPAK?MLP44?24L*; Footprint: Package_DFN_QFN:Vishay_PowerPAK_MLP44-24L_ThermalVias; Datasheet: https://www.vishay.com/docs/75921/sic437.pdf; Description_: 12A Step-Down DC/DC-Regulator, 300kHz-1MHz, 3..24Vin, 0.6..21.6Vout
pins: 1 V_{IN}, 2 V_{IN}, 3 P_{GND}, 4 P_{GND}, 5 SW, 6 SW, 7 SW, 8 SW, 9 SW, 10 GL, 11 GL, 12 V_{DRV}, 13 P_{GND}, 14 P_{GOOD}, 15 V_{DD}, 16 A_{GND}, 17 FB, 18 V_{OUT}, 19 EN, 20 MODE2, 21 MODE1, 22 V_{IN}, 23 BOOT, 24 PHASE, 25 A_{GND}, 26 V_{IN}, 27 P_{GND}, 28 GL

## SIC437B
designator *  value SIC437B  Reference: U
12A Step-Down DC/DC-Regulator, 300kHz-1MHz, 3..24Vin, 0.6..21.6Vout; ki_keywords: Buck Vishay Siliconix voltage-regulator; ki_fp_filters: Vishay?PowerPAK?MLP44?24L*; Footprint: Package_DFN_QFN:Vishay_PowerPAK_MLP44-24L_ThermalVias; Datasheet: https://www.vishay.com/docs/75921/sic437.pdf; Description_: 12A Step-Down DC/DC-Regulator, 300kHz-1MHz, 3..24Vin, 0.6..21.6Vout
pins: 1 V_{IN}, 2 V_{IN}, 3 P_{GND}, 4 P_{GND}, 5 SW, 6 SW, 7 SW, 8 SW, 9 SW, 10 GL, 11 GL, 12 V_{DRV}, 13 P_{GND}, 14 P_{GOOD}, 15 V_{DD}, 16 A_{GND}, 17 FB, 18 V_{OUT}, 19 EN, 20 MODE2, 21 MODE1, 22 V_{IN}, 23 BOOT, 24 PHASE, 25 A_{GND}, 26 V_{IN}, 27 P_{GND}, 28 GL

## SIC437C
designator *  value SIC437C  Reference: U
12A Step-Down DC/DC-Regulator, 300kHz-1MHz, 3..24Vin, 0.6..21.6Vout; ki_keywords: Buck Vishay Siliconix voltage-regulator; ki_fp_filters: Vishay?PowerPAK?MLP44?24L*; Footprint: Package_DFN_QFN:Vishay_PowerPAK_MLP44-24L_ThermalVias; Datasheet: https://www.vishay.com/docs/75921/sic437.pdf; Description_: 12A Step-Down DC/DC-Regulator, 300kHz-1MHz, 3..24Vin, 0.6..21.6Vout
pins: 1 V_{IN}, 2 V_{IN}, 3 P_{GND}, 4 P_{GND}, 5 SW, 6 SW, 7 SW, 8 SW, 9 SW, 10 GL, 11 GL, 12 V_{DRV}, 13 P_{GND}, 14 P_{GOOD}, 15 V_{DD}, 16 A_{GND}, 17 FB, 18 V_{OUT}, 19 EN, 20 MODE2, 21 MODE1, 22 V_{IN}, 23 BOOT, 24 PHASE, 25 A_{GND}, 26 V_{IN}, 27 P_{GND}, 28 GL

## SIC437D
designator *  value SIC437D  Reference: U
12A Step-Down DC/DC-Regulator, 300kHz-1MHz, 3..24Vin, 0.6..21.6Vout; ki_keywords: Buck Vishay Siliconix voltage-regulator; ki_fp_filters: Vishay?PowerPAK?MLP44?24L*; Footprint: Package_DFN_QFN:Vishay_PowerPAK_MLP44-24L_ThermalVias; Datasheet: https://www.vishay.com/docs/75921/sic437.pdf; Description_: 12A Step-Down DC/DC-Regulator, 300kHz-1MHz, 3..24Vin, 0.6..21.6Vout
pins: 1 V_{IN}, 2 V_{IN}, 3 P_{GND}, 4 P_{GND}, 5 SW, 6 SW, 7 SW, 8 SW, 9 SW, 10 GL, 11 GL, 12 V_{DRV}, 13 P_{GND}, 14 P_{GOOD}, 15 V_{DD}, 16 A_{GND}, 17 FB, 18 V_{OUT}, 19 EN, 20 MODE2, 21 MODE1, 22 V_{IN}, 23 BOOT, 24 PHASE, 25 A_{GND}, 26 V_{IN}, 27 P_{GND}, 28 GL

## SIC438A
designator *  value SIC438A  Reference: U
8A Step-Down DC/DC-Regulator, 300kHz-1MHz, 3..24Vin, 0.6..21.6Vout; ki_keywords: Buck Vishay Siliconix voltage-regulator; ki_fp_filters: Vishay?PowerPAK?MLP44?24L*; Footprint: Package_DFN_QFN:Vishay_PowerPAK_MLP44-24L_ThermalVias; Datasheet: https://www.vishay.com/docs/75921/sic437.pdf; Description_: 8A Step-Down DC/DC-Regulator, 300kHz-1MHz, 3..24Vin, 0.6..21.6Vout
pins: 1 V_{IN}, 2 V_{IN}, 3 P_{GND}, 4 P_{GND}, 5 SW, 6 SW, 7 SW, 8 SW, 9 SW, 10 GL, 11 GL, 12 V_{DRV}, 13 P_{GND}, 14 P_{GOOD}, 15 V_{DD}, 16 A_{GND}, 17 FB, 18 V_{OUT}, 19 EN, 20 MODE2, 21 MODE1, 22 V_{IN}, 23 BOOT, 24 PHASE, 25 A_{GND}, 26 V_{IN}, 27 P_{GND}, 28 GL

## SIC438B
designator *  value SIC438B  Reference: U
8A Step-Down DC/DC-Regulator, 300kHz-1MHz, 3..24Vin, 0.6..21.6Vout; ki_keywords: Buck Vishay Siliconix voltage-regulator; ki_fp_filters: Vishay?PowerPAK?MLP44?24L*; Footprint: Package_DFN_QFN:Vishay_PowerPAK_MLP44-24L_ThermalVias; Datasheet: https://www.vishay.com/docs/75921/sic437.pdf; Description_: 8A Step-Down DC/DC-Regulator, 300kHz-1MHz, 3..24Vin, 0.6..21.6Vout
pins: 1 V_{IN}, 2 V_{IN}, 3 P_{GND}, 4 P_{GND}, 5 SW, 6 SW, 7 SW, 8 SW, 9 SW, 10 GL, 11 GL, 12 V_{DRV}, 13 P_{GND}, 14 P_{GOOD}, 15 V_{DD}, 16 A_{GND}, 17 FB, 18 V_{OUT}, 19 EN, 20 MODE2, 21 MODE1, 22 V_{IN}, 23 BOOT, 24 PHASE, 25 A_{GND}, 26 V_{IN}, 27 P_{GND}, 28 GL

## SIC438C
designator *  value SIC438C  Reference: U
8A Step-Down DC/DC-Regulator, 300kHz-1MHz, 3..24Vin, 0.6..21.6Vout; ki_keywords: Buck Vishay Siliconix voltage-regulator; ki_fp_filters: Vishay?PowerPAK?MLP44?24L*; Footprint: Package_DFN_QFN:Vishay_PowerPAK_MLP44-24L_ThermalVias; Datasheet: https://www.vishay.com/docs/75921/sic437.pdf; Description_: 8A Step-Down DC/DC-Regulator, 300kHz-1MHz, 3..24Vin, 0.6..21.6Vout
pins: 1 V_{IN}, 2 V_{IN}, 3 P_{GND}, 4 P_{GND}, 5 SW, 6 SW, 7 SW, 8 SW, 9 SW, 10 GL, 11 GL, 12 V_{DRV}, 13 P_{GND}, 14 P_{GOOD}, 15 V_{DD}, 16 A_{GND}, 17 FB, 18 V_{OUT}, 19 EN, 20 MODE2, 21 MODE1, 22 V_{IN}, 23 BOOT, 24 PHASE, 25 A_{GND}, 26 V_{IN}, 27 P_{GND}, 28 GL

## SIC438D
designator *  value SIC438D  Reference: U
8A Step-Down DC/DC-Regulator, 300kHz-1MHz, 3..24Vin, 0.6..21.6Vout; ki_keywords: Buck Vishay Siliconix voltage-regulator; ki_fp_filters: Vishay?PowerPAK?MLP44?24L*; Footprint: Package_DFN_QFN:Vishay_PowerPAK_MLP44-24L_ThermalVias; Datasheet: https://www.vishay.com/docs/75921/sic437.pdf; Description_: 8A Step-Down DC/DC-Regulator, 300kHz-1MHz, 3..24Vin, 0.6..21.6Vout
pins: 1 V_{IN}, 2 V_{IN}, 3 P_{GND}, 4 P_{GND}, 5 SW, 6 SW, 7 SW, 8 SW, 9 SW, 10 GL, 11 GL, 12 V_{DRV}, 13 P_{GND}, 14 P_{GOOD}, 15 V_{DD}, 16 A_{GND}, 17 FB, 18 V_{OUT}, 19 EN, 20 MODE2, 21 MODE1, 22 V_{IN}, 23 BOOT, 24 PHASE, 25 A_{GND}, 26 V_{IN}, 27 P_{GND}, 28 GL

## ST1S10PHR
designator *  value ST1S10PHR  Reference: U
3A monolithic synchronous step-down regulator, Adjustable Output Voltage, 2.5-18V Input Voltage, 900kHz, PowerSO-8; ki_keywords: DC/DC Buck Conwerter 3A Low Voltage Input; ki_fp_filters: TI*SO*PowerPAD*; Footprint: Package_SO:TI_SO-PowerPAD-8; Datasheet: http://www.st.com/internet/com/TECHNICAL_RESOURCES/TECHNICAL_LITERATURE/DATASHEET/CD00169322.pdf; Description_: 3A monolithic synchronous step-down regulator, Adjustable Output Voltage, 2.5-18V Input Voltage, 900kHz, PowerSO-8
pins: 1 VINA, 2 INH, 3 FB, 4 AGND, 5 SYNC, 6 VINSW, 7 SW, 8 PGND, 9 PADGND

## ST1S10PUR
designator *  value ST1S10PUR  Reference: U
3A monolithic synchronous step-down regulator, Adjustable Output Voltage, 2.5-18V Input Voltage, 900kHz, DFN-8; ki_keywords: DC/DC Buck Conwerter 3A Low Voltage Input; ki_fp_filters: DFN*EP*4x4mm*P0.8mm*; Footprint: Package_DFN_QFN:DFN-8-1EP_4x4mm_P0.8mm_EP2.5x3.6mm; Datasheet: http://www.st.com/internet/com/TECHNICAL_RESOURCES/TECHNICAL_LITERATURE/DATASHEET/CD00169322.pdf; Description_: 3A monolithic synchronous step-down regulator, Adjustable Output Voltage, 2.5-18V Input Voltage, 900kHz, DFN-8
pins: 1 VINA, 2 INH, 3 FB, 4 AGND, 5 SYNC, 6 VINSW, 7 SW, 8 PGND, 9 PADGND

## ST1S12XX
designator *  value ST1S12XX  Reference: U
0.7A synchronous step-down regulator, Adjustable Output Voltage, 2.5-5.5V Input Voltage, 1.7MHz, TSOT-23-5; ki_keywords: DC/DC Buck Converter 0.7A; ki_fp_filters: TSOT?23*; Footprint: Package_TO_SOT_SMD:TSOT-23-5; Datasheet: https://www.st.com/resource/en/datasheet/st1s12xx.pdf; Description_: 0.7A synchronous step-down regulator, Adjustable Output Voltage, 2.5-5.5V Input Voltage, 1.7MHz, TSOT-23-5
pins: 1 EN, 2 GND, 3 SW, 4 V_{IN}, 5 FB/V_{O}

## ST1S14PHR
designator *  value ST1S14PHR  Reference: U
3A step-down switching regulator, Adjustable Output Voltage, 5.5-48V Input Voltage, 850kHz, PowerSO-8; ki_keywords: DC/DC Buck Conwerter 3A; ki_fp_filters: TI*SO*PowerPAD*; Footprint: Package_SO:TI_SO-PowerPAD-8; Datasheet: http://www.st.com/internet/com/TECHNICAL_RESOURCES/TECHNICAL_LITERATURE/DATASHEET/CD00285678.pdf; Description_: 3A step-down switching regulator, Adjustable Output Voltage, 5.5-48V Input Voltage, 850kHz, PowerSO-8
pins: 1 BOOT, 2 PG, 3 ~{{EN1}}, 4 FB, 5 EN2, 6 GND, 7 VIN, 8 SW, 9 PADGND

## SY8513A
designator U?  value LM5013QDDARQ1
3.A, 100V Step-Down Switching Regulator, adjustable from 100kHz to 500kHz SOIC-8; Description_: 600mA, 100V Step-Down Switching Regulator, WSON-8; ki_keywords: Step-Down Switching Regulator High Voltage; ki_fp_filters: WSON*1EP*4x4mm*P0.8mm*; Footprint: Package_SON:WSON-8-1EP_4x4mm_P0.8mm_EP1.98x3mm; Datasheet: http://www.ti.com/lit/ds/symlink/lm5017.pdf
footprint SOIC-8-1EP_3.9x4.9mm_P1.27mm_EP2.41x3.3mm_ThermalVias
pins: 1 VIN, 2 EN, 3 FS, 4 GND, 5 FB, 6 PG, 7 BS, 8 LX, 9 EP

## SY81103A
designator U?  value SY81103ABT
3A, 18V Input High Efficiency,500kHz, / Synchronous Buck Converter, adjustable output voltage, SOT-23-6; Description_: 3A, 750kHz Buck DC/DC Converter, PFM for light load efficiency, 4.2V-18V input voltage, 0.8V-7V adjustable output voltage, TSOT-23-6; ki_keywords: 3A Buck DC/DC; ki_fp_filters: TSOT?23*; Footprint: Package_TO_SOT_SMD:TSOT-23-6; Datasheet: https://www.diodes.com/assets/Datasheets/AP62300_AP62301_AP62300T.pdf
footprint SOT-23-6
pins: 1 BS, 2 GND, 3 FB, 4 EN, 5 IN, 6 LX

## TDN_5-0910WISM
designator *  value TDN_5-0910WISM  Reference: U
Input 4.5 to 13.2V, Output 3.3V; ki_keywords: dcdc traco 5W; ki_fp_filters: Converter?DCDC?TRACO?TDN?5*WISM?SMD*; Footprint: Converter_DCDC:Converter_DCDC_TRACO_TDN_5-xxxxWISM_SMD; Datasheet: https://assets.tracopower.com/20190626081517/TDN5WISM/documents/tdn5wism-datasheet.pdf; Description_: Input 4.5 to 13.2V, Output 3.3V
pins: 1 +VIN, 2 -VIN, 4 ON/OFF, 5 NC, 6 -VOUT, 7 +VOUT

## TDN_5-0911WISM
designator *  value TDN_5-0911WISM  Reference: U
Input 4.5 to 13.2V, Output 5.0V; ki_keywords: dcdc traco 5W; ki_fp_filters: Converter?DCDC?TRACO?TDN?5*WISM?SMD*; Footprint: Converter_DCDC:Converter_DCDC_TRACO_TDN_5-xxxxWISM_SMD; Datasheet: https://assets.tracopower.com/20190626081517/TDN5WISM/documents/tdn5wism-datasheet.pdf; Description_: Input 4.5 to 13.2V, Output 5.0V
pins: 1 +VIN, 2 -VIN, 4 ON/OFF, 5 NC, 6 -VOUT, 7 +VOUT

## TDN_5-0912WISM
designator *  value TDN_5-0912WISM  Reference: U
Input 4.5 to 13.2V, Output 12.0V; ki_keywords: dcdc traco 5W; ki_fp_filters: Converter?DCDC?TRACO?TDN?5*WISM?SMD*; Footprint: Converter_DCDC:Converter_DCDC_TRACO_TDN_5-xxxxWISM_SMD; Datasheet: https://assets.tracopower.com/20190626081517/TDN5WISM/documents/tdn5wism-datasheet.pdf; Description_: Input 4.5 to 13.2V, Output 12.0V
pins: 1 +VIN, 2 -VIN, 4 ON/OFF, 5 NC, 6 -VOUT, 7 +VOUT

## TDN_5-0913WISM
designator *  value TDN_5-0913WISM  Reference: U
Input 4.5 to 13.2V, Output 15.0V; ki_keywords: dcdc traco 5W; ki_fp_filters: Converter?DCDC?TRACO?TDN?5*WISM?SMD*; Footprint: Converter_DCDC:Converter_DCDC_TRACO_TDN_5-xxxxWISM_SMD; Datasheet: https://assets.tracopower.com/20190626081517/TDN5WISM/documents/tdn5wism-datasheet.pdf; Description_: Input 4.5 to 13.2V, Output 15.0V
pins: 1 +VIN, 2 -VIN, 4 ON/OFF, 5 NC, 6 -VOUT, 7 +VOUT

## TDN_5-0915WISM
designator *  value TDN_5-0915WISM  Reference: U
Input 4.5 to 13.2V, Output 24.0V; ki_keywords: dcdc traco 5W; ki_fp_filters: Converter?DCDC?TRACO?TDN?5*WISM?SMD*; Footprint: Converter_DCDC:Converter_DCDC_TRACO_TDN_5-xxxxWISM_SMD; Datasheet: https://assets.tracopower.com/20190626081517/TDN5WISM/documents/tdn5wism-datasheet.pdf; Description_: Input 4.5 to 13.2V, Output 24.0V
pins: 1 +VIN, 2 -VIN, 4 ON/OFF, 5 NC, 6 -VOUT, 7 +VOUT

## TDN_5-0919WISM
designator *  value TDN_5-0919WISM  Reference: U
Input 4.5 to 13.2V, Output 9.0V; ki_keywords: dcdc traco 5W; ki_fp_filters: Converter?DCDC?TRACO?TDN?5*WISM?SMD*; Footprint: Converter_DCDC:Converter_DCDC_TRACO_TDN_5-xxxxWISM_SMD; Datasheet: https://assets.tracopower.com/20190626081517/TDN5WISM/documents/tdn5wism-datasheet.pdf; Description_: Input 4.5 to 13.2V, Output 9.0V
pins: 1 +VIN, 2 -VIN, 4 ON/OFF, 5 NC, 6 -VOUT, 7 +VOUT

## TDN_5-2410WISM
designator *  value TDN_5-2410WISM  Reference: U
Input 9.0 to 36.0V, Output 3.3V; ki_keywords: dcdc traco 5W; ki_fp_filters: Converter?DCDC?TRACO?TDN?5*WISM?SMD*; Footprint: Converter_DCDC:Converter_DCDC_TRACO_TDN_5-xxxxWISM_SMD; Datasheet: https://assets.tracopower.com/20190626081517/TDN5WISM/documents/tdn5wism-datasheet.pdf; Description_: Input 9.0 to 36.0V, Output 3.3V
pins: 1 +VIN, 2 -VIN, 4 ON/OFF, 5 NC, 6 -VOUT, 7 +VOUT

## TDN_5-2411WISM
designator *  value TDN_5-2411WISM  Reference: U
Input 9.0 to 36.0V, Output 5.0V; ki_keywords: dcdc traco 5W; ki_fp_filters: Converter?DCDC?TRACO?TDN?5*WISM?SMD*; Footprint: Converter_DCDC:Converter_DCDC_TRACO_TDN_5-xxxxWISM_SMD; Datasheet: https://assets.tracopower.com/20190626081517/TDN5WISM/documents/tdn5wism-datasheet.pdf; Description_: Input 9.0 to 36.0V, Output 5.0V
pins: 1 +VIN, 2 -VIN, 4 ON/OFF, 5 NC, 6 -VOUT, 7 +VOUT

## TDN_5-2412WISM
designator *  value TDN_5-2412WISM  Reference: U
Input 9.0 to 36.0V, Output 12.0V; ki_keywords: dcdc traco 5W; ki_fp_filters: Converter?DCDC?TRACO?TDN?5*WISM?SMD*; Footprint: Converter_DCDC:Converter_DCDC_TRACO_TDN_5-xxxxWISM_SMD; Datasheet: https://assets.tracopower.com/20190626081517/TDN5WISM/documents/tdn5wism-datasheet.pdf; Description_: Input 9.0 to 36.0V, Output 12.0V
pins: 1 +VIN, 2 -VIN, 4 ON/OFF, 5 NC, 6 -VOUT, 7 +VOUT

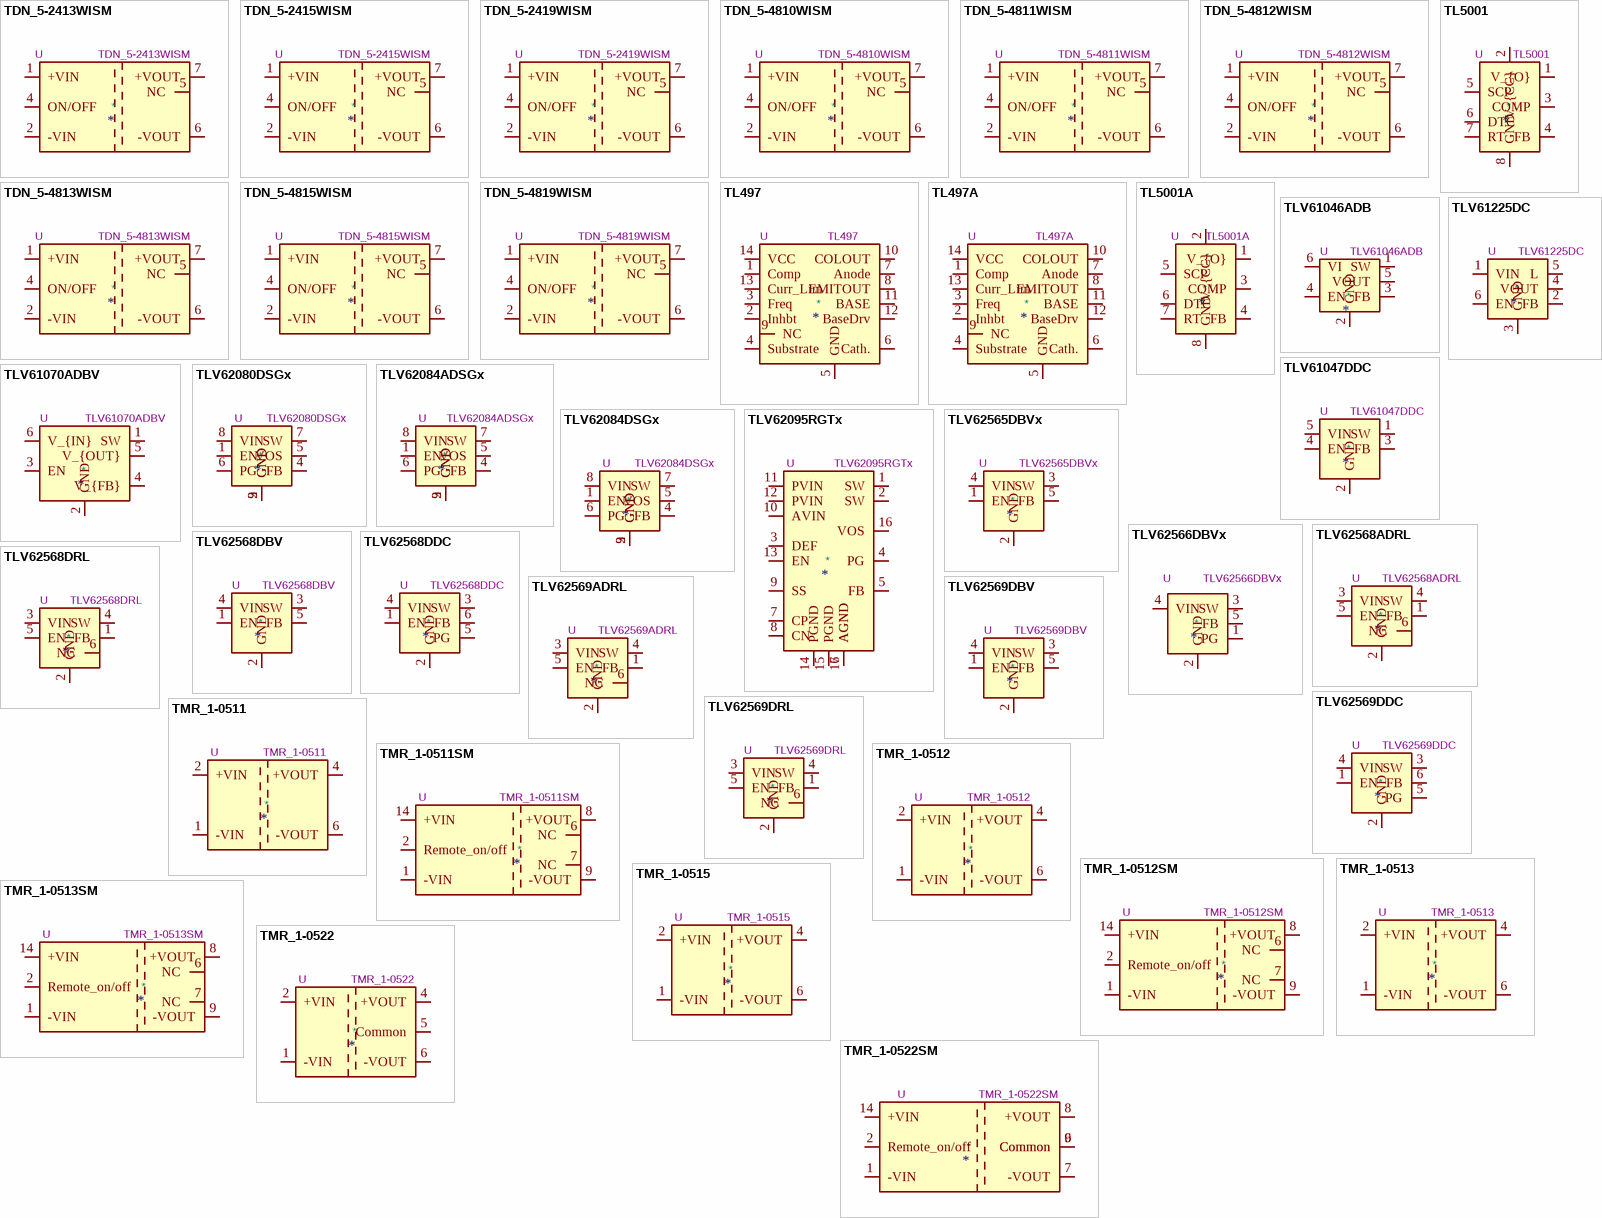
[diagram p21: symbols TDN_5-2413WISM to TMR_1-0522SM]

## TDN_5-2413WISM
designator *  value TDN_5-2413WISM  Reference: U
Input 9.0 to 36.0V, Output 15.0V; ki_keywords: dcdc traco 5W; ki_fp_filters: Converter?DCDC?TRACO?TDN?5*WISM?SMD*; Footprint: Converter_DCDC:Converter_DCDC_TRACO_TDN_5-xxxxWISM_SMD; Datasheet: https://assets.tracopower.com/20190626081517/TDN5WISM/documents/tdn5wism-datasheet.pdf; Description_: Input 9.0 to 36.0V, Output 15.0V
pins: 1 +VIN, 2 -VIN, 4 ON/OFF, 5 NC, 6 -VOUT, 7 +VOUT

## TDN_5-2415WISM
designator *  value TDN_5-2415WISM  Reference: U
Input 9.0 to 36.0V, Output 24.0V; ki_keywords: dcdc traco 5W; ki_fp_filters: Converter?DCDC?TRACO?TDN?5*WISM?SMD*; Footprint: Converter_DCDC:Converter_DCDC_TRACO_TDN_5-xxxxWISM_SMD; Datasheet: https://assets.tracopower.com/20190626081517/TDN5WISM/documents/tdn5wism-datasheet.pdf; Description_: Input 9.0 to 36.0V, Output 24.0V
pins: 1 +VIN, 2 -VIN, 4 ON/OFF, 5 NC, 6 -VOUT, 7 +VOUT

## TDN_5-2419WISM
designator *  value TDN_5-2419WISM  Reference: U
Input 9.0 to 36.0V, Output 9.0V; ki_keywords: dcdc traco 5WW; ki_fp_filters: Converter?DCDC?TRACO?TDN?5*WISM?SMD*; Footprint: Converter_DCDC:Converter_DCDC_TRACO_TDN_5-xxxxWISM_SMD; Datasheet: https://assets.tracopower.com/20190626081517/TDN5WISM/documents/tdn5wism-datasheet.pdf; Description_: Input 9.0 to 36.0V, Output 9.0V
pins: 1 +VIN, 2 -VIN, 4 ON/OFF, 5 NC, 6 -VOUT, 7 +VOUT

## TDN_5-4810WISM
designator *  value TDN_5-4810WISM  Reference: U
Input 18.0 to 75.0V, Output 3.3V; ki_keywords: dcdc traco 5W; ki_fp_filters: Converter?DCDC?TRACO?TDN?5*WISM?SMD*; Footprint: Converter_DCDC:Converter_DCDC_TRACO_TDN_5-xxxxWISM_SMD; Datasheet: https://assets.tracopower.com/20190626081517/TDN5WISM/documents/tdn5wism-datasheet.pdf; Description_: Input 18.0 to 75.0V, Output 3.3V
pins: 1 +VIN, 2 -VIN, 4 ON/OFF, 5 NC, 6 -VOUT, 7 +VOUT

## TDN_5-4811WISM
designator *  value TDN_5-4811WISM  Reference: U
Input 18.0 to 75.0V, Output 5.0V; ki_keywords: dcdc traco 5W; ki_fp_filters: Converter?DCDC?TRACO?TDN?5*WISM?SMD*; Footprint: Converter_DCDC:Converter_DCDC_TRACO_TDN_5-xxxxWISM_SMD; Datasheet: https://assets.tracopower.com/20190626081517/TDN5WISM/documents/tdn5wism-datasheet.pdf; Description_: Input 18.0 to 75.0V, Output 5.0V
pins: 1 +VIN, 2 -VIN, 4 ON/OFF, 5 NC, 6 -VOUT, 7 +VOUT

## TDN_5-4812WISM
designator *  value TDN_5-4812WISM  Reference: U
Input 18.0 to 75.0V, Output 12.0V; ki_keywords: dcdc traco 5W; ki_fp_filters: Converter?DCDC?TRACO?TDN?5*WISM?SMD*; Footprint: Converter_DCDC:Converter_DCDC_TRACO_TDN_5-xxxxWISM_SMD; Datasheet: https://assets.tracopower.com/20190626081517/TDN5WISM/documents/tdn5wism-datasheet.pdf; Description_: Input 18.0 to 75.0V, Output 12.0V
pins: 1 +VIN, 2 -VIN, 4 ON/OFF, 5 NC, 6 -VOUT, 7 +VOUT

## TDN_5-4813WISM
designator *  value TDN_5-4813WISM  Reference: U
Input 18.0 to 75.0V, Output 15.0V; ki_keywords: dcdc traco 5W; ki_fp_filters: Converter?DCDC?TRACO?TDN?5*WISM?SMD*; Footprint: Converter_DCDC:Converter_DCDC_TRACO_TDN_5-xxxxWISM_SMD; Datasheet: https://assets.tracopower.com/20190626081517/TDN5WISM/documents/tdn5wism-datasheet.pdf; Description_: Input 18.0 to 75.0V, Output 15.0V
pins: 1 +VIN, 2 -VIN, 4 ON/OFF, 5 NC, 6 -VOUT, 7 +VOUT

## TDN_5-4815WISM
designator *  value TDN_5-4815WISM  Reference: U
Input 18.0 to 75.0V, Output 24.0V; ki_keywords: dcdc traco 5W; ki_fp_filters: Converter?DCDC?TRACO?TDN?5*WISM?SMD*; Footprint: Converter_DCDC:Converter_DCDC_TRACO_TDN_5-xxxxWISM_SMD; Datasheet: https://assets.tracopower.com/20190626081517/TDN5WISM/documents/tdn5wism-datasheet.pdf; Description_: Input 18.0 to 75.0V, Output 24.0V
pins: 1 +VIN, 2 -VIN, 4 ON/OFF, 5 NC, 6 -VOUT, 7 +VOUT

## TDN_5-4819WISM
designator *  value TDN_5-4819WISM  Reference: U
Input 18.0 to 75.0V, Output 9.0V; ki_keywords: dcdc traco 5W; ki_fp_filters: Converter?DCDC?TRACO?TDN?5*WISM?SMD*; Footprint: Converter_DCDC:Converter_DCDC_TRACO_TDN_5-xxxxWISM_SMD; Datasheet: https://assets.tracopower.com/20190626081517/TDN5WISM/documents/tdn5wism-datasheet.pdf; Description_: Input 18.0 to 75.0V, Output 9.0V
pins: 1 +VIN, 2 -VIN, 4 ON/OFF, 5 NC, 6 -VOUT, 7 +VOUT

## TL497
designator *  value TL497  Reference: U
500mA step up/step down/inverting switching voltage regulator, SIP-14/SOIC-14(W); ki_keywords: buck regulator; ki_fp_filters: DIP*W7.62mm* SOIC*7.5x9.0mm*P1.27mm* SOIC*3.9x8.7mm*P1.27mm*; Datasheet: http://www.ti.com/lit/ds/symlink/tl497a.pdf; Description_: 500mA step up/step down/inverting switching voltage regulator, SIP-14/SOIC-14(W)
pins: 1 Comp, 2 Inhbt, 3 Freq, 4 Substrate, 5 GND, 6 Cath., 7 Anode, 8 EMITOUT, 9 NC, 10 COLOUT, 11 BASE, 12 BaseDrv, 13 Curr_Lim, 14 VCC

## TL497A
designator *  value TL497A  Reference: U
500mA step up/step down switching regulator; ki_keywords: buck regulator; ki_fp_filters: DIP*W7.62mm* SOIC*7.5x9.0mm*P1.27mm* SOIC*3.9x8.7mm*P1.27mm*; Datasheet: http://www.ti.com/lit/ds/symlink/tl497a.pdf; Description_: 500mA step up/step down switching regulator
pins: 1 Comp, 2 Inhbt, 3 Freq, 4 Substrate, 5 GND, 6 Cath., 7 Anode, 8 EMITOUT, 9 NC, 10 COLOUT, 11 BASE, 12 BaseDrv, 13 Curr_Lim, 14 VCC

## TL5001
designator *  value TL5001  Reference: U
PWM Controller with wide input range, with 5% tolerance on reference. Input range 3.6-40V. Max output 50V.; ki_keywords: PWM SMPS; ki_fp_filters: *SO?8*3.9x4.9mm*P1.27mm* *DIP?8*W7.62mm*; Datasheet: https://www.ti.com/lit/ds/symlink/tl5001.pdf; Description_: PWM Controller with wide input range, with 5% tolerance on reference. Input range 3.6-40V. Max output 50V.
pins: 1 V_{O}, 2 V_{CC}, 3 COMP, 4 FB, 5 SCP, 6 DTC, 7 RT, 8 GND

## TL5001A
designator *  value TL5001A  Reference: U
PWM Controller with wide input range, with 3% tolerance on reference. Input range 3.6-40V. Max output 50V.; ki_keywords: PWM SMPS; ki_fp_filters: *SO?8*3.9x4.9mm*P1.27mm* *DIP?8*W7.62mm*; Datasheet: https://www.ti.com/lit/ds/symlink/tl5001a.pdf; Description_: PWM Controller with wide input range, with 3% tolerance on reference. Input range 3.6-40V. Max output 50V.
pins: 1 V_{O}, 2 V_{CC}, 3 COMP, 4 FB, 5 SCP, 6 DTC, 7 RT, 8 GND

## TLV61046ADB
designator *  value TLV61046ADB  Reference: U
28-V Output Voltage Boost Converter with Power Diode and Isolation Switch, SOT-23-6; ki_keywords: Step-Up DC-DC Converter; ki_fp_filters: SOT?23*; Footprint: Package_TO_SOT_SMD:SOT-23-6; Datasheet: http://www.ti.com/lit/ds/symlink/tlv61046a.pdf; Description_: 28-V Output Voltage Boost Converter with Power Diode and Isolation Switch, SOT-23-6
pins: 1 SW, 2 GND, 3 FB, 4 EN, 5 VOUT, 6 VI

## TLV61047DDC
designator *  value TLV61047DDC  Reference: U
Non-synchronous Boost Regulator, Adjustable Output up to 28V, 2.2A Switch Current Limit, SOT-23-5; ki_keywords: Step-Up Boost DC-DC Regulator Adjustable; ki_fp_filters: SOT?23*; Footprint: Package_TO_SOT_SMD:SOT-23-5; Datasheet: https://www.ti.com/lit/ds/symlink/tlv61047.pdf; Description_: Non-synchronous Boost Regulator, Adjustable Output up to 28V, 2.2A Switch Current Limit, SOT-23-5
pins: 1 SW, 2 GND, 3 FB, 4 EN, 5 VIN

## TLV61070ADBV
designator *  value TLV61070ADBV  Reference: U
Boost Converter, 2.5A switch current limit, 2.2-5.5V Output Voltage, 0.5-5.5V Input Voltage, SOT-23-6; ki_keywords: Boost adjustable converter; ki_fp_filters: SOT?23*; Footprint: Package_TO_SOT_SMD:SOT-23-6; Datasheet: https://www.ti.com/lit/ds/symlink/tlv61070a.pdf; Description_: Boost Converter, 2.5A switch current limit, 2.2-5.5V Output Voltage, 0.5-5.5V Input Voltage, SOT-23-6
pins: 1 SW, 2 GND, 3 EN, 4 V_{FB}, 5 V_{OUT}, 6 V_{IN}

## TLV61225DC
designator *  value TLV61225DC  Reference: U
Fixed 3.3V Output Voltage Boost Converter with Power Diode and Isolation Switch, 5uA Quiescent Current, SOT-363; ki_keywords: Step-Up DC-DC Converter; ki_fp_filters: SOT?363*; Footprint: Package_TO_SOT_SMD:SOT-363_SC-70-6; Datasheet: https://www.ti.com/lit/ds/symlink/tlv61225.pdf; Description_: Fixed 3.3V Output Voltage Boost Converter with Power Diode and Isolation Switch, 5uA Quiescent Current, SOT-363
pins: 1 VIN, 2 FB, 3 GND, 4 VOUT, 5 L, 6 EN

## TLV62080DSGx
designator *  value TLV62080DSGx  Reference: U
High-efficiency Step-down Converter; ki_keywords: Synchronous Buck; ki_fp_filters: *WSON?8?1EP*2x2mm*P0.5mm*; Footprint: Package_SON:WSON-8-1EP_2x2mm_P0.5mm_EP0.9x1.6mm; Datasheet: http://www.ti.com/lit/ds/symlink/tlv62080.pdf; Description_: High-efficiency Step-down Converter
pins: 1 EN, 2 GND, 3 GND, 4 FB, 5 VOS, 6 PG, 7 SW, 8 VIN, 9 GND

## TLV62084ADSGx
designator *  value TLV62084ADSGx  Reference: U
High-efficiency Step-down Converter; ki_keywords: Synchronous Buck; ki_fp_filters: *WSON?8?1EP*2x2mm*P0.5mm*; Footprint: Package_SON:WSON-8-1EP_2x2mm_P0.5mm_EP0.9x1.6mm; Datasheet: http://www.ti.com/lit/ds/symlink/tlv62080.pdf; Description_: High-efficiency Step-down Converter
pins: 1 EN, 2 GND, 3 GND, 4 FB, 5 VOS, 6 PG, 7 SW, 8 VIN, 9 GND